# Altium schematic symbol library RFSA2033.Schlib: 1 symbol
Pins are listed as number, name and electrical type; pins without a type are passive.

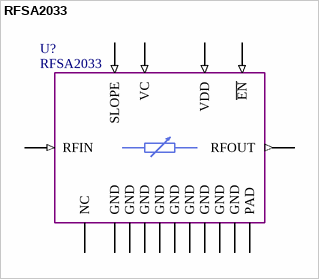
[diagram p0: symbol RFSA2033]

## RFSA2033
designator U?
pins: 1 GND, 2 GND, 3 RFIN (in), 4 GND, 5 GND, 6 GND, 7 GND, 8 GND, 9 GND, 10 RFOUT (out), 11 GND, 12 ~{EN} (in), 13 NC, 14 VC (in), 15 VDD (in), 16 SLOPE (in), EP1 PAD